# Altium footprint library Logo.PcbLib: 2 footprints
Each footprint in its own frame and in the unit in brackets; x right, y up, seen from the top. Pads: shape width x height; smd on the part's side, far side on the other; paste and mask are expansions set on the pad; w line width, h text height; cw(c..) or ccw(c..) is an arc to the next point about the centre after c.
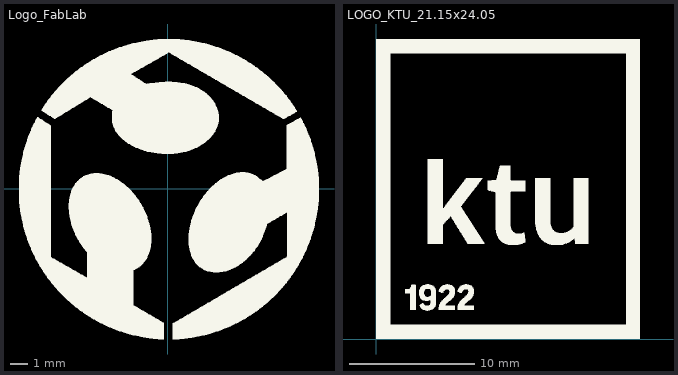
[diagram p0: the footprints below, top view; thin cyan lines are the x and y axes]

## Logo_FabLab [mm]
height 1.35
Top Overlay:
  drawing of 1865 lines, arcs and shapes, not listed

## LOGO_KTU_21.15x24.05 [mm]
Top Overlay:
  drawing of 8 lines, arcs and shapes, not listed